# EAGLE library part SI7020-* (library si70xx-10)
I2C Humidity and Temperature Sensor Source: http://www.silabs.com/Support%20Documents/TechnicalDocs/Si7020.pdf
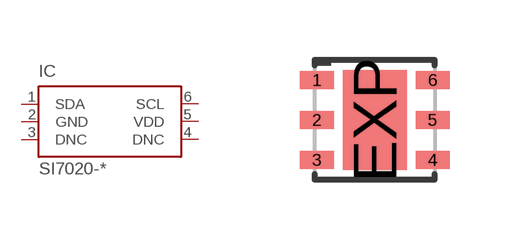
[diagram p3: symbol with the pads of DFN6-3X3; footprint DFN6-3X3]

Designator prefix IC

## SI7020-A10-GM (MF: Silicon Labs; MPN: Si7020-GM; OC_FARNELL: 2422567; OC_NEWARK: 55X3107), SI7020-A10-GM1 (MF: Silicon Labs; MPN: Si7020-GM1; OC_FARNELL: 2422565; OC_NEWARK: 55X3108), SI7020-A10-IM (MF: Silicon Labs; MPN: Si7020-IM; OC_FARNELL: 2422569; OC_NEWARK: 55X3109), SI7020-A10-IM1 (MF: Silicon Labs; MPN: Si7020-IM1; OC_FARNELL: 2422568; OC_NEWARK: 55X3110)  [DFN6-3X3]
1  SDA
2  GND  pwr
3  DNC  nc
4  DNC  nc
5  VDD  pwr
6  SCL  in

## Footprint DFN6-3X3 (pad centres in mm)
6-Lead Plastic Dual Flat No Lead Package - 3x3 mm Body [DFN] Source: http://www.silabs.com/Support%20Documents/TechnicalDocs/Si7006-A10.pdf
smd 0.85 x 0.45: 1 -1.45,1; 2 -1.45,0; 3 -1.45,-1; 4 1.45,-1; 5 1.45,0; 6 1.45,1
smd 1.6 x 2.5: EXP 0,0